# Altium schematic symbol library DG407 8-ch Analog Multiplexer.SchLib: 1 symbol
Pins are listed as number, name and electrical type; pins without a type are passive.

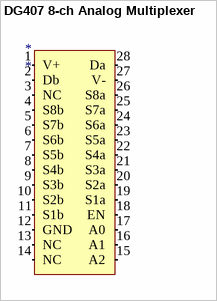
[diagram p0: symbol DG407 8-ch Analog Multiplexer]

## DG407 8-ch Analog Multiplexer
designator *
pins: 1 V+ (in), 2 Db (in), 3 NC (in), 4 S8b (in), 5 S7b (in), 6 S6b (in), 7 S5b (in), 8 S4b (in), 9 S3b (in), 10 S2b (in), 11 S1b (in), 12 GND (in), 13 NC (in), 14 NC (in), 15 A2 (in), 16 A1 (in), 17 A0 (in), 18 EN (in), 19 S1a (in), 20 S2a (in), 21 S3a (in), 22 S4a (in), 23 S5a (in), 24 S6a (in), 25 S7a (in), 26 S8a (in), 27 V- (in), 28 Da (in)